# EAGLE library part FEMALE_HEADER_3X2 (library connectors)
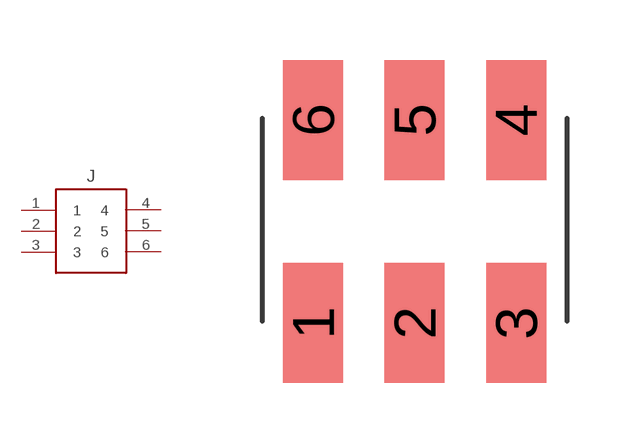
[diagram p13: symbol with the pads of 3X2_HEADER_SMT; footprint 3X2_HEADER_SMT]

Designator prefix J

## FEMALE_HEADER_3X2  [3X2_HEADER_SMT]
1  1
2  2
3  3
4  4
5  5
6  6

## Footprint 3X2_HEADER_SMT (pad centres in mm)
smd 1.5 x 3: 1 -2.54,-2.58; 2 0,-2.58; 3 2.54,-2.58; 4 2.54,2.5; 5 0,2.5; 6 -2.54,2.5